# Altium integrated library Linear Technology Power Management Switching Regulator LTC1174-LTC3901.IntLib: 2647 symbols (part 360 of 364)
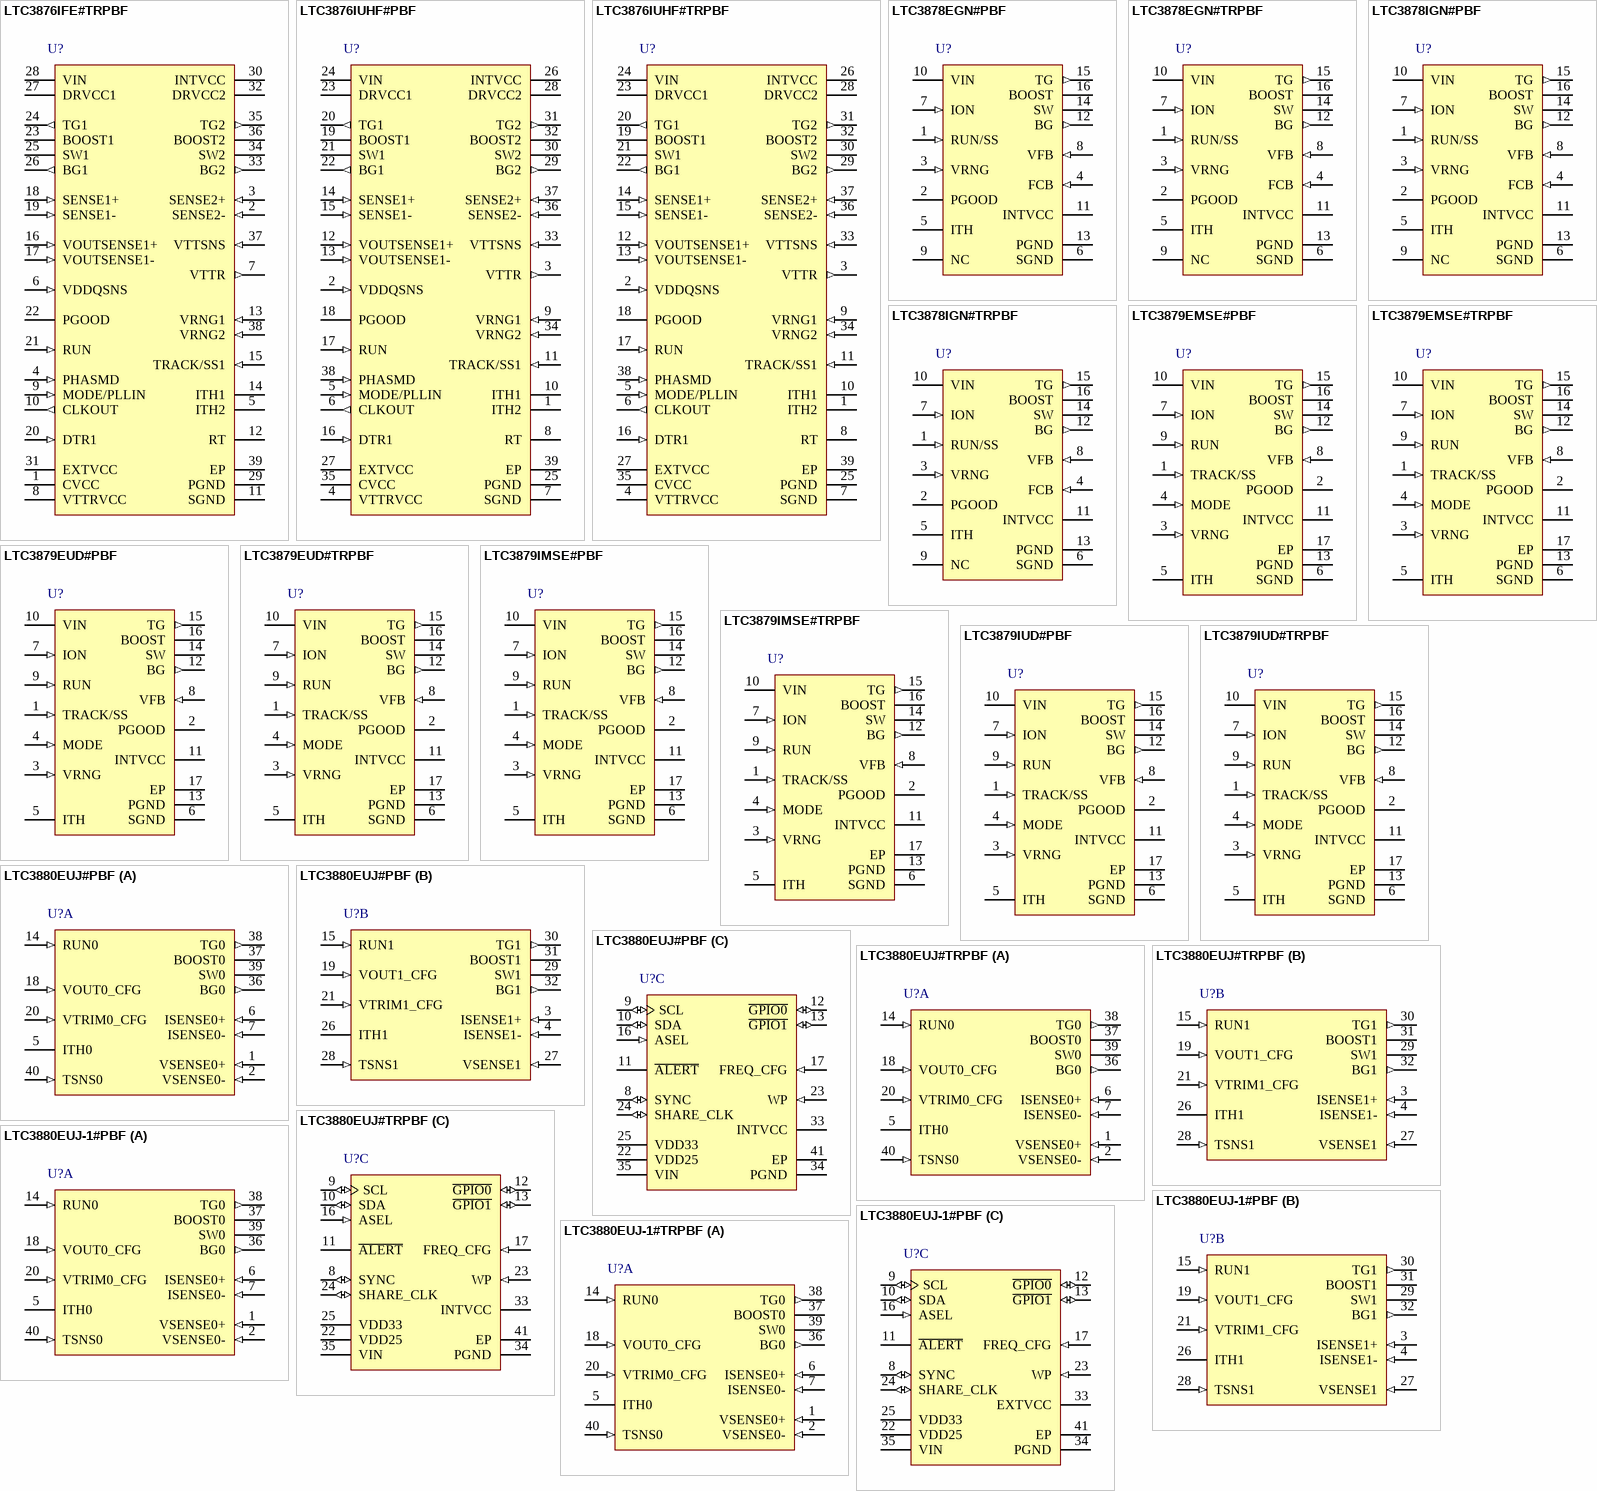
[diagram p303: symbols LTC3876IFE#TRPBF to LTC3880EUJ-1#TRPBF]

## LTC3879IMSE#TRPBF
designator U?
Fast, Wide Operating Range No Rsense Step-Down Controller, 16-pin SOP (MSE-16-EDP), -40 to 85 degC, Pb-Free, Tape and Reel; Manufacturer: Linear Technology; PartNumber: LTC3879IMSE#TRPBF; Number of Outputs: 1; PackageVersion: Rev. F, 05/2013; PackageReference: MSE-16; PackageDescription: 16-Pin Plastic MSOP, Exposed Die Pad, Body 4.039 x 3 mm, Pitch 0.5 mm; Supplier 1: Digi-Key; Supplier Part Number 1: LTC3879IMSE#TRPBF-ND; Supplier 2: Newark; Supplier Part Number 2: 71P8104; Packing: Tape and Reel; RoHS: TRUE; Mounting Technology: Surface Mount; ComponentLink1Description: Manufacturer URL; ComponentLink1URL: http://www.linear.com/; ComponentLink2Description: Datasheet; ComponentLink2URL: http://cds.linear.com/docs/en/datasheet/3879f.pdf; ComponentLink3Description: Package Specification; ComponentLink3URL: http://cds.linear.com/docs/en/packaging/05081667_F_MSE16.pdf
footprint LT-MSE-16-EDP_N (SOP, 16-Leads, Body 4.1x3.1mm, Pitch 0.5mm, Thermal Pad 2.95x1.76mm, IPC Medium Density)
footprint LT-MSE-16-EDP_L (SOP, 16-Leads, Body 4.1x3.1mm, Pitch 0.5mm, Thermal Pad 2.95x1.76mm, IPC High Density)
footprint LT-MSE-16-EDP_M (SOP, 16-Leads, Body 4.1x3.1mm, Pitch 0.5mm, Thermal Pad 2.95x1.76mm, IPC Low Density)
pins: 1 TRACK/SS (in) "External Tracking and Soft-Start Input. The LTC3879 regulates VFB to the smaller of 0.6V or the voltage on the TRACK/SS pin. An internal 1uA pull-up current source is connected to this pin. A capacitor to ground at this pin (See Datasheet)", 2 PGOOD (oc) "Power Good Output. This open-drain logic output is pulled to ground when the output voltage is outside of a +/-10% window around the regulation point.", 3 VRNG (in) "VDS Sense Voltage Range Input. The maximum allowed bottom MOSFET VDS sense voltage between SW and PGND is equal to (0.133)VRNG. The voltage applied to VRNG can be any value between 0.2V and 2V. If VRNG is tied to SGND, the (See Datasheet)", 4 MODE (in) "MODE Input. Connect this pin to INTVCC to enable discontinuous mode for light load operation. Connect this pin to SGND to force continuous mode operation in all conditions.", 5 ITH "Current Control Threshold and Error Amplifier Compensation Point. The current comparator threshold increases with this control voltage. The voltage ranges from 0V to 2.4V, with 0.8V corresponding to zero sense voltage (zero (See Datasheet)", 6 SGND (power) "Signal Ground. All small-signal components should be connected to SGND. Connect SGND to PGND using a single PCB trace.", 7 ION (in) "On-Time Current Input. Tie a resistor from VIN to this pin to set the one-shot timer current and thus the switching frequency.", 8 VFB (in) "Error Amplifier Feedback Input. This pin connects the error amplifier to an external resistive divider from VOUT.", 9 RUN (in) "Run Control Input. RUN below 1.5V disables switching by forcing TG and BG low. RUN less than 1.5V but greater than 0.7V enables all internal bias including the INTVCC output. RUN below 0.7V shuts down all bias and places the (See Datasheet)", 10 VIN (power) "Main Input Supply. The supply voltage can range from 4V to 38V. For increased noise immunity decouple this pin to PGND with an RC filter.", 11 INTVCC (power) "Internal 5.3V Regulator Output. The driver and control circuits are powered from this voltage. Decouple this pin to PGND with a minimum of 1uF, 10V X5R or X7R ceramic capacitor.", 12 BG (out) "Bottom Gate Drive. This pin drives the gate of the bottom N-Channel power MOSFET between PGND and INTVCC.", 13 PGND (power) "Power Ground. Connect this pin as close as practical to the source of the bottom N-channel power MOSFET, the (-) terminal of CINTVCC and the (-) terminal of CVIN.", 14 SW "Switch Node. The (-) terminal of the bootstrap capacitor, CB, connects to this node. This pin swings from a diode voltage below ground up to VIN.", 15 TG (out) "Top Gate Drive. This pin drives the gate of the top N-channel power MOSFET between SW and BOOST.", 16 BOOST "Boosted Floating Driver Supply. The (+) terminal of the bootstrap capacitor, CB, connects to this node. This node swings from (INTVCC - VSCHOTTKY) to VIN + (INTVCC - VSCHOTTKY).", 17 EP (power) "The Exposed Pad is SGND and must be soldered to the PCB."

## LTC3879IUD#PBF
designator U?
Fast, Wide Operating Range No Rsense Step-Down Controller, 16-pin QFN (UD-16-EPV-AA), -40 to 85 degC, Pb-Free; Manufacturer: Linear Technology; PartNumber: LTC3879IUD#PBF; Number of Outputs: 1; PackageVersion: Rev. A, 06/2010; PackageReference: UD-16; PackageDescription: 16-Pin Plastic QFN, Body 3 x 3 mm, Pitch 0.5 mm; Supplier 1: Digi-Key; Supplier Part Number 1: LTC3879IUD#PBF-ND; RoHS: TRUE; Mounting Technology: Surface Mount; Code_JEDEC: MO-220; ComponentLink1Description: Manufacturer URL; ComponentLink1URL: http://www.linear.com/; ComponentLink2Description: Datasheet; ComponentLink2URL: http://cds.linear.com/docs/en/datasheet/3879f.pdf; ComponentLink3Description: Package Specification; ComponentLink3URL: http://cds.linear.com/docs/en/packaging/QFN_16_05-08-1700.pdf
footprint LT-UD-16-EPV-AA_N (QFN, 16-Leads, Body 3.1x3.1mm, Pitch 0.5mm, Thermal Pad 1.65x1.65mm, IPC Medium Density)
footprint LT-UD-16-EPV-AA_L (QFN, 16-Leads, Body 3.1x3.1mm, Pitch 0.5mm, Thermal Pad 1.65x1.65mm, IPC High Density)
footprint LT-UD-16-EPV-AA_M (QFN, 16-Leads, Body 3.1x3.1mm, Pitch 0.5mm, Thermal Pad 1.65x1.65mm, IPC Low Density)
pins: 1 TRACK/SS (in) "External Tracking and Soft-Start Input. The LTC3879 regulates VFB to the smaller of 0.6V or the voltage on the TRACK/SS pin. An internal 1uA pull-up current source is connected to this pin. A capacitor to ground at this pin (See Datasheet)", 2 PGOOD (oc) "Power Good Output. This open-drain logic output is pulled to ground when the output voltage is outside of a +/-10% window around the regulation point.", 3 VRNG (in) "VDS Sense Voltage Range Input. The maximum allowed bottom MOSFET VDS sense voltage between SW and PGND is equal to (0.133)VRNG. The voltage applied to VRNG can be any value between 0.2V and 2V. If VRNG is tied to SGND, the (See Datasheet)", 4 MODE (in) "MODE Input. Connect this pin to INTVCC to enable discontinuous mode for light load operation. Connect this pin to SGND to force continuous mode operation in all conditions.", 5 ITH "Current Control Threshold and Error Amplifier Compensation Point. The current comparator threshold increases with this control voltage. The voltage ranges from 0V to 2.4V, with 0.8V corresponding to zero sense voltage (zero (See Datasheet)", 6 SGND (power) "Signal Ground. All small-signal components should be connected to SGND. Connect SGND to PGND using a single PCB trace.", 7 ION (in) "On-Time Current Input. Tie a resistor from VIN to this pin to set the one-shot timer current and thus the switching frequency.", 8 VFB (in) "Error Amplifier Feedback Input. This pin connects the error amplifier to an external resistive divider from VOUT.", 9 RUN (in) "Run Control Input. RUN below 1.5V disables switching by forcing TG and BG low. RUN less than 1.5V but greater than 0.7V enables all internal bias including the INTVCC output. RUN below 0.7V shuts down all bias and places the (See Datasheet)", 10 VIN (power) "Main Input Supply. The supply voltage can range from 4V to 38V. For increased noise immunity decouple this pin to PGND with an RC filter.", 11 INTVCC (power) "Internal 5.3V Regulator Output. The driver and control circuits are powered from this voltage. Decouple this pin to PGND with a minimum of 1uF, 10V X5R or X7R ceramic capacitor.", 12 BG (out) "Bottom Gate Drive. This pin drives the gate of the bottom N-Channel power MOSFET between PGND and INTVCC.", 13 PGND (power) "Power Ground. Connect this pin as close as practical to the source of the bottom N-channel power MOSFET, the (-) terminal of CINTVCC and the (-) terminal of CVIN.", 14 SW "Switch Node. The (-) terminal of the bootstrap capacitor, CB, connects to this node. This pin swings from a diode voltage below ground up to VIN.", 15 TG (out) "Top Gate Drive. This pin drives the gate of the top N-channel power MOSFET between SW and BOOST.", 16 BOOST "Boosted Floating Driver Supply. The (+) terminal of the bootstrap capacitor, CB, connects to this node. This node swings from (INTVCC - VSCHOTTKY) to VIN + (INTVCC - VSCHOTTKY).", 17 EP (power) "The Exposed Pad is SGND and must be soldered to the PCB."

## LTC3879IUD#TRPBF
designator U?
Fast, Wide Operating Range No Rsense Step-Down Controller, 16-pin QFN (UD-16-EPV-AA), -40 to 85 degC, Pb-Free, Tape and Reel; Manufacturer: Linear Technology; PartNumber: LTC3879IUD#TRPBF; Number of Outputs: 1; PackageVersion: Rev. A, 06/2010; PackageReference: UD-16; PackageDescription: 16-Pin Plastic QFN, Body 3 x 3 mm, Pitch 0.5 mm; Supplier 1: Digi-Key; Supplier Part Number 1: LTC3879IUD#TRPBF-ND; Supplier 2: Newark; Supplier Part Number 2: 71P8106; Packing: Tape and Reel; RoHS: TRUE; Mounting Technology: Surface Mount; Code_JEDEC: MO-220; ComponentLink1Description: Manufacturer URL; ComponentLink1URL: http://www.linear.com/; ComponentLink2Description: Datasheet; ComponentLink2URL: http://cds.linear.com/docs/en/datasheet/3879f.pdf; ComponentLink3Description: Package Specification; ComponentLink3URL: http://cds.linear.com/docs/en/packaging/QFN_16_05-08-1700.pdf
footprint LT-UD-16-EPV-AA_N (QFN, 16-Leads, Body 3.1x3.1mm, Pitch 0.5mm, Thermal Pad 1.65x1.65mm, IPC Medium Density)
footprint LT-UD-16-EPV-AA_L (QFN, 16-Leads, Body 3.1x3.1mm, Pitch 0.5mm, Thermal Pad 1.65x1.65mm, IPC High Density)
footprint LT-UD-16-EPV-AA_M (QFN, 16-Leads, Body 3.1x3.1mm, Pitch 0.5mm, Thermal Pad 1.65x1.65mm, IPC Low Density)
pins: 1 TRACK/SS (in) "External Tracking and Soft-Start Input. The LTC3879 regulates VFB to the smaller of 0.6V or the voltage on the TRACK/SS pin. An internal 1uA pull-up current source is connected to this pin. A capacitor to ground at this pin (See Datasheet)", 2 PGOOD (oc) "Power Good Output. This open-drain logic output is pulled to ground when the output voltage is outside of a +/-10% window around the regulation point.", 3 VRNG (in) "VDS Sense Voltage Range Input. The maximum allowed bottom MOSFET VDS sense voltage between SW and PGND is equal to (0.133)VRNG. The voltage applied to VRNG can be any value between 0.2V and 2V. If VRNG is tied to SGND, the (See Datasheet)", 4 MODE (in) "MODE Input. Connect this pin to INTVCC to enable discontinuous mode for light load operation. Connect this pin to SGND to force continuous mode operation in all conditions.", 5 ITH "Current Control Threshold and Error Amplifier Compensation Point. The current comparator threshold increases with this control voltage. The voltage ranges from 0V to 2.4V, with 0.8V corresponding to zero sense voltage (zero (See Datasheet)", 6 SGND (power) "Signal Ground. All small-signal components should be connected to SGND. Connect SGND to PGND using a single PCB trace.", 7 ION (in) "On-Time Current Input. Tie a resistor from VIN to this pin to set the one-shot timer current and thus the switching frequency.", 8 VFB (in) "Error Amplifier Feedback Input. This pin connects the error amplifier to an external resistive divider from VOUT.", 9 RUN (in) "Run Control Input. RUN below 1.5V disables switching by forcing TG and BG low. RUN less than 1.5V but greater than 0.7V enables all internal bias including the INTVCC output. RUN below 0.7V shuts down all bias and places the (See Datasheet)", 10 VIN (power) "Main Input Supply. The supply voltage can range from 4V to 38V. For increased noise immunity decouple this pin to PGND with an RC filter.", 11 INTVCC (power) "Internal 5.3V Regulator Output. The driver and control circuits are powered from this voltage. Decouple this pin to PGND with a minimum of 1uF, 10V X5R or X7R ceramic capacitor.", 12 BG (out) "Bottom Gate Drive. This pin drives the gate of the bottom N-Channel power MOSFET between PGND and INTVCC.", 13 PGND (power) "Power Ground. Connect this pin as close as practical to the source of the bottom N-channel power MOSFET, the (-) terminal of CINTVCC and the (-) terminal of CVIN.", 14 SW "Switch Node. The (-) terminal of the bootstrap capacitor, CB, connects to this node. This pin swings from a diode voltage below ground up to VIN.", 15 TG (out) "Top Gate Drive. This pin drives the gate of the top N-channel power MOSFET between SW and BOOST.", 16 BOOST "Boosted Floating Driver Supply. The (+) terminal of the bootstrap capacitor, CB, connects to this node. This node swings from (INTVCC - VSCHOTTKY) to VIN + (INTVCC - VSCHOTTKY).", 17 EP (power) "The Exposed Pad is SGND and must be soldered to the PCB."

## LTC3880EUJ#PBF
designator U?
Dual Output PolyPhase Step-Down DC/DC Controller with Digital Power System Management, 40-pin QFN (UJ-40), -40 to 105 degC, Pb-Free; Manufacturer: Linear Technology; PartNumber: LTC3880EUJ#PBF; Frequency Sync Range: 250kHz - 1MHz; Number of Outputs: 2; DatasheetVersion: Rev. A; PackageVersion: Rev. Ø, 06/2010; PackageReference: UJ-40; PackageDescription: 40-Pin Plastic QFN, Body 6 x 6 mm, Pitch 0.5 mm; Supplier 1: Digi-Key; Supplier Part Number 1: LTC3880EUJ#PBF-ND; Supplier 2: Farnell; Supplier Part Number 2: 2113547; Supplier 3: Newark; Supplier Part Number 3: 59T5658; RoHS: TRUE; Mounting Technology: Surface Mount; ComponentLink1Description: Manufacturer URL; ComponentLink1URL: http://www.linear.com/; ComponentLink2Description: Datasheet; ComponentLink2URL: http://cds.linear.com/docs/en/datasheet/3880fa.pdf; ComponentLink3Description: Package Specification; ComponentLink3URL: http://cds.linear.com/docs/en/packaging/QFN_40_05-08-1728.pdf
footprint LT-UJ-40_N (QFN, 40-Leads, Body 6.1x6.1mm, Pitch 0.5mm, Thermal Pad 4.42x4.42mm, IPC Medium Density)
footprint LT-UJ-40_L (QFN, 40-Leads, Body 6.1x6.1mm, Pitch 0.5mm, Thermal Pad 4.42x4.42mm, IPC High Density)
footprint LT-UJ-40_M (QFN, 40-Leads, Body 6.1x6.1mm, Pitch 0.5mm, Thermal Pad 4.42x4.42mm, IPC Low Density)
part A pins: 1 VSENSE0+ (in) "Channel 0 Positive Voltage Sense Input.", 2 VSENSE0- (in) "Channel 0 Negative Voltage Sense Input.", 5 ITH0 "Current Control Threshold and Error Amplifier Compensation Nodes. Each associated channel’s current comparator tripping threshold increases with its ITH voltage.", 6 ISENSE0+ (in) "Current Sense Comparator Inputs. The (+) inputs to the current comparators are normally connected to DCR sensing networks or current sensing resistors.", 7 ISENSE0- (in) "Current Sense Comparator Inputs. The (-) inputs are connected to the low side of the current sense element.", 14 RUN0 (in) "Enable Run Input. Logic high on these pins enables the controller. Open-drain output holds the pin low until the LTC3880 is out of reset. A pullup resistor to 3.3V is required in the application.", 18 VOUT0_CFG (in) "Output Voltage Select Pin. Connect a +/-1% resistor divider between the chip VDD25 VOUTn_CFG and SGND in order to select output voltage. This voltage can be adjusted with the VTRIMn_CFG pins. If the pin is left open, the IC (See Datasheet)", 20 VTRIM0_CFG (in) "Voltage Trim Select Pin. Connect a +/-1% resistor divider between the chip VDD25 VTRIMn_CFG and SGND in order to adjust the output voltage set point. The VTRIMn_CFG settings in conjunction with the VOUTn_CFG setting adjusts (See Datasheet)", 36 BG0 (out) "Bottom Gate Driver Outputs. These pins drive the gates of the bottom N-Channel MOSFETs between PGND and INTVCC.", 37 BOOST0 "Boosted Floating Driver Supplies. The (+) terminal of the booststrap capacitors connect to these pins. These pins swing from a diode voltage drop below INTVCC up to VIN + INTVCC.", 38 TG0 (out) "Top Gate Driver Outputs. These are the outputs of floating drivers with a voltage swing equal to INTVCC superimposed on the switch node voltages.", 39 SW0 "Switch Node Connections to Inductors. Voltage swings at the pins are from a Schottky diode (external) voltage drop below ground to VIN.", 40 TSNS0 (in) "Channel 0,1 External Diode Temperature Sense. Connect to the anode of a diode connected PNP transistor and star connect the cathode to SGND in order to sense remote temperature. If external temperature sense elements are not (See Datasheet)"
part B pins: 3 ISENSE1+ (in) "Current Sense Comparator Inputs. The (+) inputs to the current comparators are normally connected to DCR sensing networks or current sensing resistors.", 4 ISENSE1- (in) "Current Sense Comparator Inputs. The (-) inputs are connected to the low side of the current sense element.", 15 RUN1 (in) "Enable Run Input. Logic high on these pins enables the controller. Open-drain output holds the pin low until the LTC3880 is out of reset. A pullup resistor to 3.3V is required in the application.", 19 VOUT1_CFG (in) "Output Voltage Select Pin. Connect a +/-1% resistor divider between the chip VDD25 VOUTn_CFG and SGND in order to select output voltage. This voltage can be adjusted with the VTRIMn_CFG pins. If the pin is left open, the IC (See Datasheet)", 21 VTRIM1_CFG (in) "Voltage Trim Select Pin. Connect a +/-1% resistor divider between the chip VDD25 VTRIMn_CFG and SGND in order to adjust the output voltage set point. The VTRIMn_CFG settings in conjunction with the VOUTn_CFG setting adjusts (See Datasheet)", 26 ITH1 "Current Control Threshold and Error Amplifier Compensation Nodes. Each associated channel’s current comparator tripping threshold increases with its ITH voltage.", 27 VSENSE1 (in) "Channel 1 Voltage Sense Input. This input voltage is referenced to the SGND pin.", 28 TSNS1 (in) "Channel 0,1 External Diode Temperature Sense. Connect to the anode of a diode connected PNP transistor and star connect the cathode to SGND in order to sense remote temperature. If external temperature sense elements are not (See Datasheet)", 29 SW1 "Switch Node Connections to Inductors. Voltage swings at the pins are from a Schottky diode (external) voltage drop below ground to VIN.", 30 TG1 (out) "Top Gate Driver Outputs. These are the outputs of floating drivers with a voltage swing equal to INTVCC superimposed on the switch node voltages.", 31 BOOST1 "Boosted Floating Driver Supplies. The (+) terminal of the booststrap capacitors connect to these pins. These pins swing from a diode voltage drop below INTVCC up to VIN + INTVCC.", 32 BG1 (out) "Bottom Gate Driver Outputs. These pins drive the gates of the bottom N-Channel MOSFETs between PGND and INTVCC."
part C pins: 8 SYNC (io) "External Clock Synchronization Input and Open-Drain Output Pin. If an external clock is present at this pin, the switching frequency will be synchronized to the external clock. If clock master mode is enabled, this pin will (See Datasheet)", 9 SCL (io) "Serial Bus Clock Input. Open-drain output, can hold the output low if clock stretching is enabled. A pull-up resistor to 3.3V is required in the application.", 10 SDA (io) "Serial Bus Data Input and Output. A pull-up resistor to 3.3V is required in the application.", 11 ~{ALERT} (oc) "Open-Drain Digital Output. Connect the S\M\B\A\L\E\R\T\ signal to this pin. A pull-up resistor to 3.3V is required in the application", 12 ~{GPIO0} (io) "Digital Programmable General Purpose Inputs and Outputs. Open-drain output. A pull-up resistor to 3.3V is required in the application.", 13 ~{GPIO1} (io) "Digital Programmable General Purpose Inputs and Outputs. Open-drain output. A pull-up resistor to 3.3V is required in the application.", 16 ASEL (in) "Serial Bus Address Configuration Input. Connect a +/-1% resistor divider between the chip VDD25 ASEL and SGND in order to select the 4LSBs of the serial bus interface address. A resistor divider on ASEL is recommended if (See Datasheet)", 17 FREQ_CFG (in) "Frequency or Phase Set/Select Pin. Connect a +/-1% resistor divider between the chip VDD25 FREQ_CFG and SGND in order to select switching frequency or phase. If the pin is left open, the IC will use the value programmed in (See Datasheet)", 22 VDD25 (power) "Internally Generated 2.5V power Supply Output Pin. Bypass this pin to SGND with a low ESR 1uF capacitor. Do not load this pin with external current except for the +/-1% resistor dividers required for the configuration pins.", 23 WP (in) "Write Protect Pin Active High. An internal 10uA current source pulls the pin to VDD33. If WP is high, the PMBus writes are restricted.", 24 SHARE_CLK (io) "Share Clock, Bidirectional Open- Drain Clock Sharing Pin. Nominally 100kHz. Used to synchronize the timing between multiple LTC3880s. Tie all SHARE_CLK pins together. All LTC3880s will synchronize to the fastest clock. A (See Datasheet)", 25 VDD33 (power) "Internally Generated 3.3V Power Supply Output Pin. Bypass this pin to SGND with a low ESR 1uF capacitor. Do not load this pin with external current except for the pull-up resistors required for G\P\I\O\n, SCLK, SYNC and (See Datasheet)", 33 INTVCC (power) "Internal Regulator 5V Output. The control circuits are powered from this voltage. Decouple this pin to PGND with a minimum of 4.7uF low ESR tantalum or ceramic capacitor.", 34 PGND (power) "Power Ground Pin. Connect this pin closely to the sources of the bottom N-channel MOSFETs, the (-) terminal of CVCC and the (-) terminal of CIN.", 35 VIN (power) "Main Input Supply. Decouple this pin to PGND with a capacitor (0.1uF to 1uF). For applications where the main input power is 5V, tie the VIN and INTVCC pins together.", 41 EP (power) "Signal Ground. All smallsignal and compensation components should connect to this ground, which in turn connects to PGND at one point."

## LTC3880EUJ#TRPBF
designator U?
Dual Output PolyPhase Step-Down DC/DC Controller with Digital Power System Management, 40-pin QFN (UJ-40), -40 to 105 degC, Pb-Free, Tape and Reel; Manufacturer: Linear Technology; PartNumber: LTC3880EUJ#TRPBF; Frequency Sync Range: 250kHz - 1MHz; Number of Outputs: 2; DatasheetVersion: Rev. A; PackageVersion: Rev. Ø, 06/2010; PackageReference: UJ-40; PackageDescription: 40-Pin Plastic QFN, Body 6 x 6 mm, Pitch 0.5 mm; Supplier 1: Digi-Key; Supplier Part Number 1: LTC3880EUJ#TRPBF-ND; Supplier 2: Newark; Supplier Part Number 2: 59T5659; Packing: Tape and Reel; RoHS: TRUE; Mounting Technology: Surface Mount; ComponentLink1Description: Manufacturer URL; ComponentLink1URL: http://www.linear.com/; ComponentLink2Description: Datasheet; ComponentLink2URL: http://cds.linear.com/docs/en/datasheet/3880fa.pdf; ComponentLink3Description: Package Specification; ComponentLink3URL: http://cds.linear.com/docs/en/packaging/QFN_40_05-08-1728.pdf
footprint LT-UJ-40_N (QFN, 40-Leads, Body 6.1x6.1mm, Pitch 0.5mm, Thermal Pad 4.42x4.42mm, IPC Medium Density)
footprint LT-UJ-40_L (QFN, 40-Leads, Body 6.1x6.1mm, Pitch 0.5mm, Thermal Pad 4.42x4.42mm, IPC High Density)
footprint LT-UJ-40_M (QFN, 40-Leads, Body 6.1x6.1mm, Pitch 0.5mm, Thermal Pad 4.42x4.42mm, IPC Low Density)
part A pins: 1 VSENSE0+ (in) "Channel 0 Positive Voltage Sense Input.", 2 VSENSE0- (in) "Channel 0 Negative Voltage Sense Input.", 5 ITH0 "Current Control Threshold and Error Amplifier Compensation Nodes. Each associated channel’s current comparator tripping threshold increases with its ITH voltage.", 6 ISENSE0+ (in) "Current Sense Comparator Inputs. The (+) inputs to the current comparators are normally connected to DCR sensing networks or current sensing resistors.", 7 ISENSE0- (in) "Current Sense Comparator Inputs. The (-) inputs are connected to the low side of the current sense element.", 14 RUN0 (in) "Enable Run Input. Logic high on these pins enables the controller. Open-drain output holds the pin low until the LTC3880 is out of reset. A pullup resistor to 3.3V is required in the application.", 18 VOUT0_CFG (in) "Output Voltage Select Pin. Connect a +/-1% resistor divider between the chip VDD25 VOUTn_CFG and SGND in order to select output voltage. This voltage can be adjusted with the VTRIMn_CFG pins. If the pin is left open, the IC (See Datasheet)", 20 VTRIM0_CFG (in) "Voltage Trim Select Pin. Connect a +/-1% resistor divider between the chip VDD25 VTRIMn_CFG and SGND in order to adjust the output voltage set point. The VTRIMn_CFG settings in conjunction with the VOUTn_CFG setting adjusts (See Datasheet)", 36 BG0 (out) "Bottom Gate Driver Outputs. These pins drive the gates of the bottom N-Channel MOSFETs between PGND and INTVCC.", 37 BOOST0 "Boosted Floating Driver Supplies. The (+) terminal of the booststrap capacitors connect to these pins. These pins swing from a diode voltage drop below INTVCC up to VIN + INTVCC.", 38 TG0 (out) "Top Gate Driver Outputs. These are the outputs of floating drivers with a voltage swing equal to INTVCC superimposed on the switch node voltages.", 39 SW0 "Switch Node Connections to Inductors. Voltage swings at the pins are from a Schottky diode (external) voltage drop below ground to VIN.", 40 TSNS0 (in) "Channel 0,1 External Diode Temperature Sense. Connect to the anode of a diode connected PNP transistor and star connect the cathode to SGND in order to sense remote temperature. If external temperature sense elements are not (See Datasheet)"
part B pins: 3 ISENSE1+ (in) "Current Sense Comparator Inputs. The (+) inputs to the current comparators are normally connected to DCR sensing networks or current sensing resistors.", 4 ISENSE1- (in) "Current Sense Comparator Inputs. The (-) inputs are connected to the low side of the current sense element.", 15 RUN1 (in) "Enable Run Input. Logic high on these pins enables the controller. Open-drain output holds the pin low until the LTC3880 is out of reset. A pullup resistor to 3.3V is required in the application.", 19 VOUT1_CFG (in) "Output Voltage Select Pin. Connect a +/-1% resistor divider between the chip VDD25 VOUTn_CFG and SGND in order to select output voltage. This voltage can be adjusted with the VTRIMn_CFG pins. If the pin is left open, the IC (See Datasheet)", 21 VTRIM1_CFG (in) "Voltage Trim Select Pin. Connect a +/-1% resistor divider between the chip VDD25 VTRIMn_CFG and SGND in order to adjust the output voltage set point. The VTRIMn_CFG settings in conjunction with the VOUTn_CFG setting adjusts (See Datasheet)", 26 ITH1 "Current Control Threshold and Error Amplifier Compensation Nodes. Each associated channel’s current comparator tripping threshold increases with its ITH voltage.", 27 VSENSE1 (in) "Channel 1 Voltage Sense Input. This input voltage is referenced to the SGND pin.", 28 TSNS1 (in) "Channel 0,1 External Diode Temperature Sense. Connect to the anode of a diode connected PNP transistor and star connect the cathode to SGND in order to sense remote temperature. If external temperature sense elements are not (See Datasheet)", 29 SW1 "Switch Node Connections to Inductors. Voltage swings at the pins are from a Schottky diode (external) voltage drop below ground to VIN.", 30 TG1 (out) "Top Gate Driver Outputs. These are the outputs of floating drivers with a voltage swing equal to INTVCC superimposed on the switch node voltages.", 31 BOOST1 "Boosted Floating Driver Supplies. The (+) terminal of the booststrap capacitors connect to these pins. These pins swing from a diode voltage drop below INTVCC up to VIN + INTVCC.", 32 BG1 (out) "Bottom Gate Driver Outputs. These pins drive the gates of the bottom N-Channel MOSFETs between PGND and INTVCC."
part C pins: 8 SYNC (io) "External Clock Synchronization Input and Open-Drain Output Pin. If an external clock is present at this pin, the switching frequency will be synchronized to the external clock. If clock master mode is enabled, this pin will (See Datasheet)", 9 SCL (io) "Serial Bus Clock Input. Open-drain output, can hold the output low if clock stretching is enabled. A pull-up resistor to 3.3V is required in the application.", 10 SDA (io) "Serial Bus Data Input and Output. A pull-up resistor to 3.3V is required in the application.", 11 ~{ALERT} (oc) "Open-Drain Digital Output. Connect the S\M\B\A\L\E\R\T\ signal to this pin. A pull-up resistor to 3.3V is required in the application", 12 ~{GPIO0} (io) "Digital Programmable General Purpose Inputs and Outputs. Open-drain output. A pull-up resistor to 3.3V is required in the application.", 13 ~{GPIO1} (io) "Digital Programmable General Purpose Inputs and Outputs. Open-drain output. A pull-up resistor to 3.3V is required in the application.", 16 ASEL (in) "Serial Bus Address Configuration Input. Connect a +/-1% resistor divider between the chip VDD25 ASEL and SGND in order to select the 4LSBs of the serial bus interface address. A resistor divider on ASEL is recommended if (See Datasheet)", 17 FREQ_CFG (in) "Frequency or Phase Set/Select Pin. Connect a +/-1% resistor divider between the chip VDD25 FREQ_CFG and SGND in order to select switching frequency or phase. If the pin is left open, the IC will use the value programmed in (See Datasheet)", 22 VDD25 (power) "Internally Generated 2.5V power Supply Output Pin. Bypass this pin to SGND with a low ESR 1uF capacitor. Do not load this pin with external current except for the +/-1% resistor dividers required for the configuration pins.", 23 WP (in) "Write Protect Pin Active High. An internal 10uA current source pulls the pin to VDD33. If WP is high, the PMBus writes are restricted.", 24 SHARE_CLK (io) "Share Clock, Bidirectional Open- Drain Clock Sharing Pin. Nominally 100kHz. Used to synchronize the timing between multiple LTC3880s. Tie all SHARE_CLK pins together. All LTC3880s will synchronize to the fastest clock. A (See Datasheet)", 25 VDD33 (power) "Internally Generated 3.3V Power Supply Output Pin. Bypass this pin to SGND with a low ESR 1uF capacitor. Do not load this pin with external current except for the pull-up resistors required for G\P\I\O\n, SCLK, SYNC and (See Datasheet)", 33 INTVCC (power) "Internal Regulator 5V Output. The control circuits are powered from this voltage. Decouple this pin to PGND with a minimum of 4.7uF low ESR tantalum or ceramic capacitor.", 34 PGND (power) "Power Ground Pin. Connect this pin closely to the sources of the bottom N-channel MOSFETs, the (-) terminal of CVCC and the (-) terminal of CIN.", 35 VIN (power) "Main Input Supply. Decouple this pin to PGND with a capacitor (0.1uF to 1uF). For applications where the main input power is 5V, tie the VIN and INTVCC pins together.", 41 EP (power) "Signal Ground. All smallsignal and compensation components should connect to this ground, which in turn connects to PGND at one point."

## LTC3880EUJ-1#PBF
designator U?
Dual Output PolyPhase Step-Down DC/DC Controller with Digital Power System Management, 40-pin QFN (UJ-40), -40 to 105 degC, Pb-Free; Manufacturer: Linear Technology; PartNumber: LTC3880EUJ-1#PBF; Frequency Sync Range: 250kHz - 1MHz; Number of Outputs: 2; DatasheetVersion: Rev. A; PackageVersion: Rev. Ø, 06/2010; PackageReference: UJ-40; PackageDescription: 40-Pin Plastic QFN, Body 6 x 6 mm, Pitch 0.5 mm; Supplier 1: Digi-Key; Supplier Part Number 1: LTC3880EUJ-1#PBF-ND; Supplier 2: Farnell; Supplier Part Number 2: 2113546; Supplier 3: Newark; Supplier Part Number 3: 59T5656; RoHS: TRUE; Mounting Technology: Surface Mount; ComponentLink1Description: Manufacturer URL; ComponentLink1URL: http://www.linear.com/; ComponentLink2Description: Datasheet; ComponentLink2URL: http://cds.linear.com/docs/en/datasheet/3880fa.pdf; ComponentLink3Description: Package Specification; ComponentLink3URL: http://cds.linear.com/docs/en/packaging/QFN_40_05-08-1728.pdf
footprint LT-UJ-40_N (QFN, 40-Leads, Body 6.1x6.1mm, Pitch 0.5mm, Thermal Pad 4.42x4.42mm, IPC Medium Density)
footprint LT-UJ-40_L (QFN, 40-Leads, Body 6.1x6.1mm, Pitch 0.5mm, Thermal Pad 4.42x4.42mm, IPC High Density)
footprint LT-UJ-40_M (QFN, 40-Leads, Body 6.1x6.1mm, Pitch 0.5mm, Thermal Pad 4.42x4.42mm, IPC Low Density)
part A pins: 1 VSENSE0+ (in) "Channel 0 Positive Voltage Sense Input.", 2 VSENSE0- (in) "Channel 0 Negative Voltage Sense Input.", 5 ITH0 "Current Control Threshold and Error Amplifier Compensation Nodes. Each associated channel’s current comparator tripping threshold increases with its ITH voltage.", 6 ISENSE0+ (in) "Current Sense Comparator Inputs. The (+) inputs to the current comparators are normally connected to DCR sensing networks or current sensing resistors.", 7 ISENSE0- (in) "Current Sense Comparator Inputs. The (-) inputs are connected to the low side of the current sense element.", 14 RUN0 (in) "Enable Run Input. Logic high on these pins enables the controller. Open-drain output holds the pin low until the LTC3880 is out of reset. A pullup resistor to 3.3V is required in the application.", 18 VOUT0_CFG (in) "Output Voltage Select Pin. Connect a +/-1% resistor divider between the chip VDD25 VOUTn_CFG and SGND in order to select output voltage. This voltage can be adjusted with the VTRIMn_CFG pins. If the pin is left open, the IC (See Datasheet)", 20 VTRIM0_CFG (in) "Voltage Trim Select Pin. Connect a +/-1% resistor divider between the chip VDD25 VTRIMn_CFG and SGND in order to adjust the output voltage set point. The VTRIMn_CFG settings in conjunction with the VOUTn_CFG setting adjusts (See Datasheet)", 36 BG0 (out) "Bottom Gate Driver Outputs. These pins drive the gates of the bottom N-Channel MOSFETs between PGND and INTVCC.", 37 BOOST0 "Boosted Floating Driver Supplies. The (+) terminal of the booststrap capacitors connect to these pins. These pins swing from a diode voltage drop below INTVCC up to VIN + INTVCC.", 38 TG0 (out) "Top Gate Driver Outputs. These are the outputs of floating drivers with a voltage swing equal to INTVCC superimposed on the switch node voltages.", 39 SW0 "Switch Node Connections to Inductors. Voltage swings at the pins are from a Schottky diode (external) voltage drop below ground to VIN.", 40 TSNS0 (in) "Channel 0,1 External Diode Temperature Sense. Connect to the anode of a diode connected PNP transistor and star connect the cathode to SGND in order to sense remote temperature. If external temperature sense elements are not (See Datasheet)"
part B pins: 3 ISENSE1+ (in) "Current Sense Comparator Inputs. The (+) inputs to the current comparators are normally connected to DCR sensing networks or current sensing resistors.", 4 ISENSE1- (in) "Current Sense Comparator Inputs. The (-) inputs are connected to the low side of the current sense element.", 15 RUN1 (in) "Enable Run Input. Logic high on these pins enables the controller. Open-drain output holds the pin low until the LTC3880 is out of reset. A pullup resistor to 3.3V is required in the application.", 19 VOUT1_CFG (in) "Output Voltage Select Pin. Connect a +/-1% resistor divider between the chip VDD25 VOUTn_CFG and SGND in order to select output voltage. This voltage can be adjusted with the VTRIMn_CFG pins. If the pin is left open, the IC (See Datasheet)", 21 VTRIM1_CFG (in) "Voltage Trim Select Pin. Connect a +/-1% resistor divider between the chip VDD25 VTRIMn_CFG and SGND in order to adjust the output voltage set point. The VTRIMn_CFG settings in conjunction with the VOUTn_CFG setting adjusts (See Datasheet)", 26 ITH1 "Current Control Threshold and Error Amplifier Compensation Nodes. Each associated channel’s current comparator tripping threshold increases with its ITH voltage.", 27 VSENSE1 (in) "Channel 1 Voltage Sense Input. This input voltage is referenced to the SGND pin.", 28 TSNS1 (in) "Channel 0,1 External Diode Temperature Sense. Connect to the anode of a diode connected PNP transistor and star connect the cathode to SGND in order to sense remote temperature. If external temperature sense elements are not (See Datasheet)", 29 SW1 "Switch Node Connections to Inductors. Voltage swings at the pins are from a Schottky diode (external) voltage drop below ground to VIN.", 30 TG1 (out) "Top Gate Driver Outputs. These are the outputs of floating drivers with a voltage swing equal to INTVCC superimposed on the switch node voltages.", 31 BOOST1 "Boosted Floating Driver Supplies. The (+) terminal of the booststrap capacitors connect to these pins. These pins swing from a diode voltage drop below INTVCC up to VIN + INTVCC.", 32 BG1 (out) "Bottom Gate Driver Outputs. These pins drive the gates of the bottom N-Channel MOSFETs between PGND and INTVCC."
part C pins: 8 SYNC (io) "External Clock Synchronization Input and Open-Drain Output Pin. If an external clock is present at this pin, the switching frequency will be synchronized to the external clock. If clock master mode is enabled, this pin will (See Datasheet)", 9 SCL (io) "Serial Bus Clock Input. Open-drain output, can hold the output low if clock stretching is enabled. A pull-up resistor to 3.3V is required in the application.", 10 SDA (io) "Serial Bus Data Input and Output. A pull-up resistor to 3.3V is required in the application.", 11 ~{ALERT} (oc) "Open-Drain Digital Output. Connect the S\M\B\A\L\E\R\T\ signal to this pin. A pull-up resistor to 3.3V is required in the application", 12 ~{GPIO0} (io) "Digital Programmable General Purpose Inputs and Outputs. Open-drain output. A pull-up resistor to 3.3V is required in the application.", 13 ~{GPIO1} (io) "Digital Programmable General Purpose Inputs and Outputs. Open-drain output. A pull-up resistor to 3.3V is required in the application.", 16 ASEL (in) "Serial Bus Address Configuration Input. Connect a +/-1% resistor divider between the chip VDD25 ASEL and SGND in order to select the 4LSBs of the serial bus interface address. A resistor divider on ASEL is recommended if (See Datasheet)", 17 FREQ_CFG (in) "Frequency or Phase Set/Select Pin. Connect a +/-1% resistor divider between the chip VDD25 FREQ_CFG and SGND in order to select switching frequency or phase. If the pin is left open, the IC will use the value programmed in (See Datasheet)", 22 VDD25 (power) "Internally Generated 2.5V power Supply Output Pin. Bypass this pin to SGND with a low ESR 1uF capacitor. Do not load this pin with external current except for the +/-1% resistor dividers required for the configuration pins.", 23 WP (in) "Write Protect Pin Active High. An internal 10uA current source pulls the pin to VDD33. If WP is high, the PMBus writes are restricted.", 24 SHARE_CLK (io) "Share Clock, Bidirectional Open- Drain Clock Sharing Pin. Nominally 100kHz. Used to synchronize the timing between multiple LTC3880s. Tie all SHARE_CLK pins together. All LTC3880s will synchronize to the fastest clock. A (See Datasheet)", 25 VDD33 (power) "Internally Generated 3.3V Power Supply Output Pin. Bypass this pin to SGND with a low ESR 1uF capacitor. Do not load this pin with external current except for the pull-up resistors required for G\P\I\O\n, SCLK, SYNC and (See Datasheet)", 33 EXTVCC (power) "External Regulator 5V input. The control circuits are powered from this voltage. Decouple this pin to PGND with a minimum of 4.7uF low ESR tantalum or ceramic capacitor.", 34 PGND (power) "Power Ground Pin. Connect this pin closely to the sources of the bottom N-channel MOSFETs, the (-) terminal of CVCC and the (-) terminal of CIN.", 35 VIN (power) "Main Input Supply. Decouple this pin to PGND with a capacitor (0.1uF to 1uF). For applications where the main input power is 5V, tie the VIN and INTVCC pins together.", 41 EP (power) "Signal Ground. All smallsignal and compensation components should connect to this ground, which in turn connects to PGND at one point."

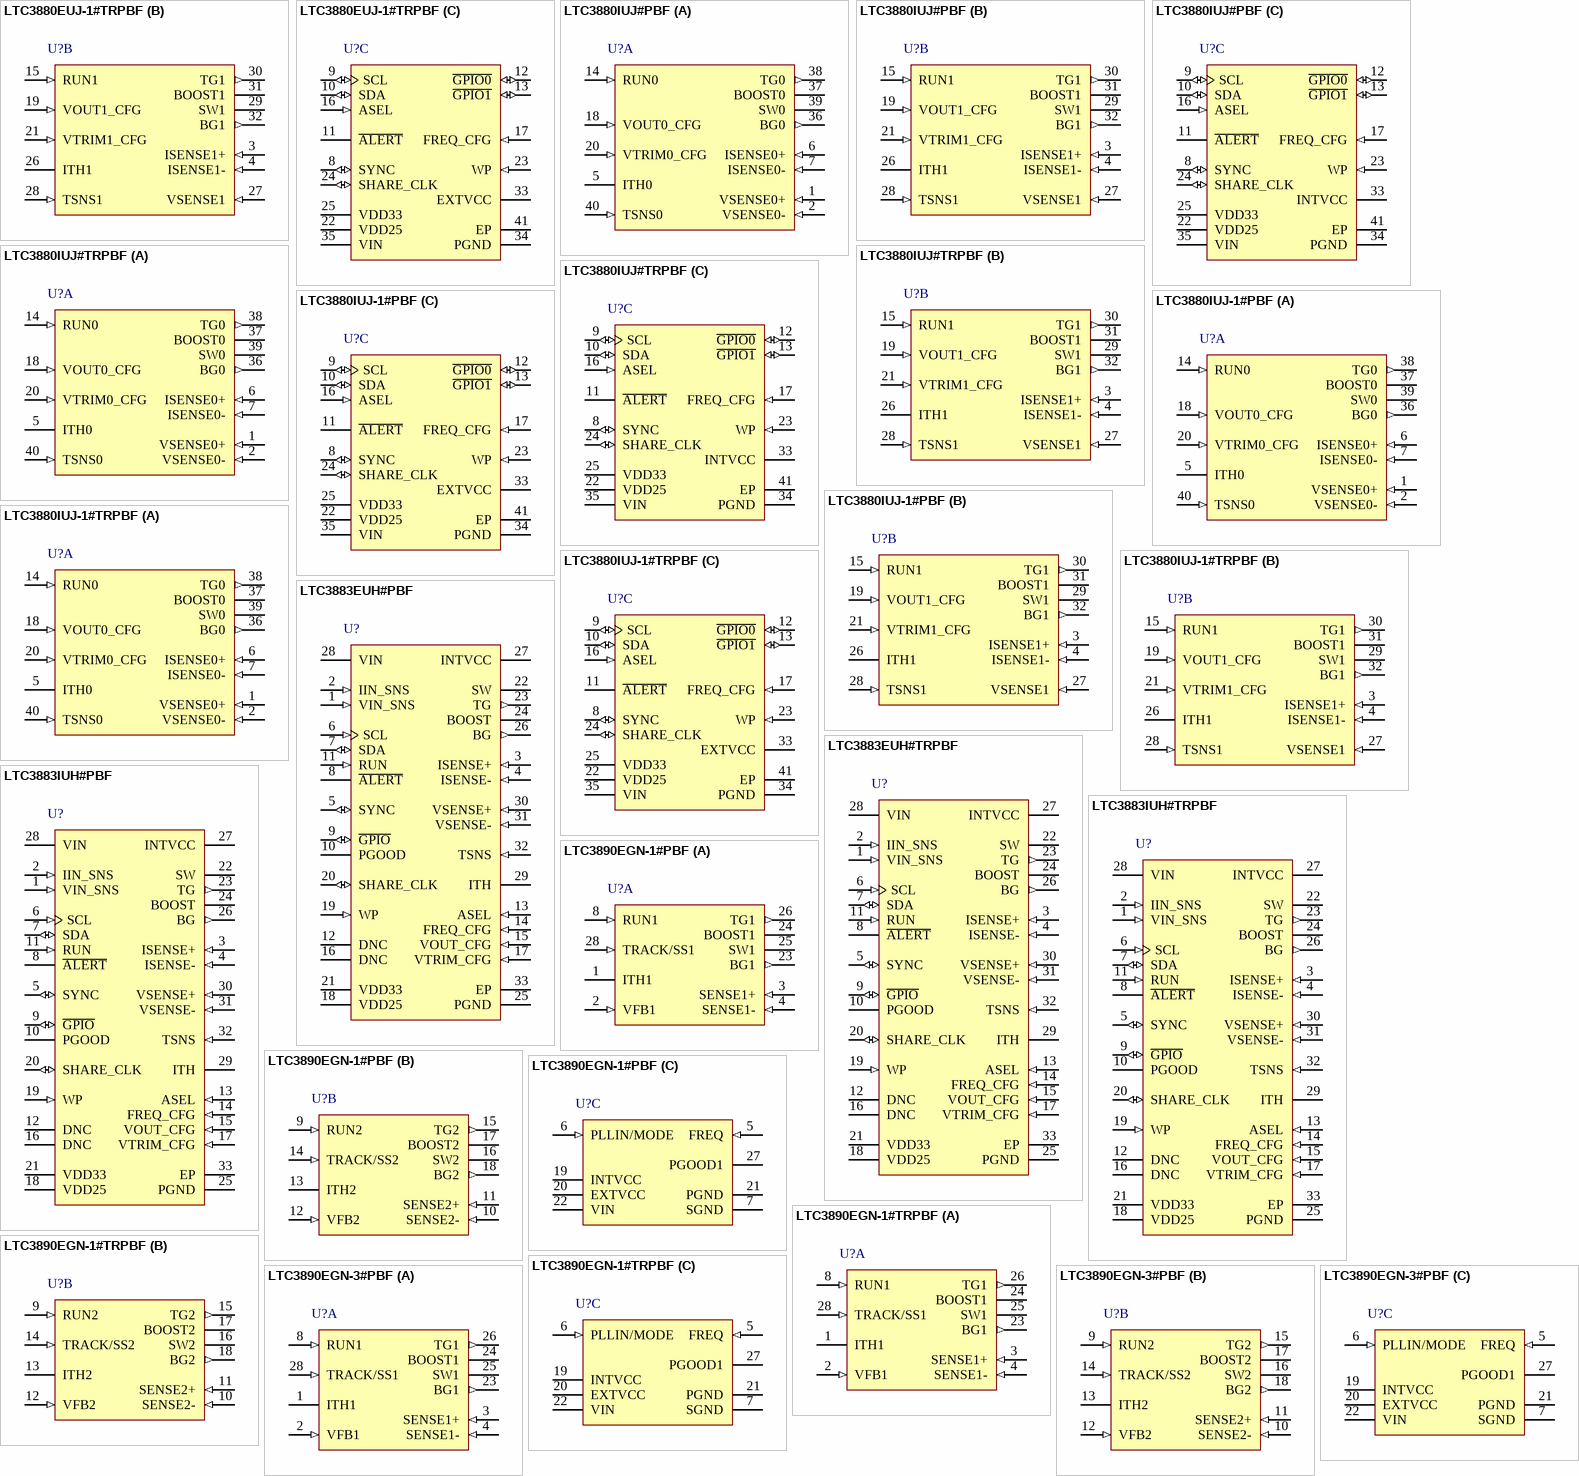
[diagram p112: symbols LTC3880EUJ-1#TRPBF to LTC3890EGN-3#PBF]

## LTC3880EUJ-1#TRPBF
designator U?
Dual Output PolyPhase Step-Down DC/DC Controller with Digital Power System Management, 40-pin QFN (UJ-40), -40 to 105 degC, Pb-Free, Tape and Reel; Manufacturer: Linear Technology; PartNumber: LTC3880EUJ-1#TRPBF; Frequency Sync Range: 250kHz - 1MHz; Number of Outputs: 2; DatasheetVersion: Rev. A; PackageVersion: Rev. Ø, 06/2010; PackageReference: UJ-40; PackageDescription: 40-Pin Plastic QFN, Body 6 x 6 mm, Pitch 0.5 mm; Supplier 1: Digi-Key; Supplier Part Number 1: LTC3880EUJ-1#TRPBF-ND; Supplier 2: Newark; Supplier Part Number 2: 59T5657; Packing: Tape and Reel; RoHS: TRUE; Mounting Technology: Surface Mount; ComponentLink1Description: Manufacturer URL; ComponentLink1URL: http://www.linear.com/; ComponentLink2Description: Datasheet; ComponentLink2URL: http://cds.linear.com/docs/en/datasheet/3880fa.pdf; ComponentLink3Description: Package Specification; ComponentLink3URL: http://cds.linear.com/docs/en/packaging/QFN_40_05-08-1728.pdf
footprint LT-UJ-40_N (QFN, 40-Leads, Body 6.1x6.1mm, Pitch 0.5mm, Thermal Pad 4.42x4.42mm, IPC Medium Density)
footprint LT-UJ-40_L (QFN, 40-Leads, Body 6.1x6.1mm, Pitch 0.5mm, Thermal Pad 4.42x4.42mm, IPC High Density)
footprint LT-UJ-40_M (QFN, 40-Leads, Body 6.1x6.1mm, Pitch 0.5mm, Thermal Pad 4.42x4.42mm, IPC Low Density)
part A pins: 1 VSENSE0+ (in) "Channel 0 Positive Voltage Sense Input.", 2 VSENSE0- (in) "Channel 0 Negative Voltage Sense Input.", 5 ITH0 "Current Control Threshold and Error Amplifier Compensation Nodes. Each associated channel’s current comparator tripping threshold increases with its ITH voltage.", 6 ISENSE0+ (in) "Current Sense Comparator Inputs. The (+) inputs to the current comparators are normally connected to DCR sensing networks or current sensing resistors.", 7 ISENSE0- (in) "Current Sense Comparator Inputs. The (-) inputs are connected to the low side of the current sense element.", 14 RUN0 (in) "Enable Run Input. Logic high on these pins enables the controller. Open-drain output holds the pin low until the LTC3880 is out of reset. A pullup resistor to 3.3V is required in the application.", 18 VOUT0_CFG (in) "Output Voltage Select Pin. Connect a +/-1% resistor divider between the chip VDD25 VOUTn_CFG and SGND in order to select output voltage. This voltage can be adjusted with the VTRIMn_CFG pins. If the pin is left open, the IC (See Datasheet)", 20 VTRIM0_CFG (in) "Voltage Trim Select Pin. Connect a +/-1% resistor divider between the chip VDD25 VTRIMn_CFG and SGND in order to adjust the output voltage set point. The VTRIMn_CFG settings in conjunction with the VOUTn_CFG setting adjusts (See Datasheet)", 36 BG0 (out) "Bottom Gate Driver Outputs. These pins drive the gates of the bottom N-Channel MOSFETs between PGND and INTVCC.", 37 BOOST0 "Boosted Floating Driver Supplies. The (+) terminal of the booststrap capacitors connect to these pins. These pins swing from a diode voltage drop below INTVCC up to VIN + INTVCC.", 38 TG0 (out) "Top Gate Driver Outputs. These are the outputs of floating drivers with a voltage swing equal to INTVCC superimposed on the switch node voltages.", 39 SW0 "Switch Node Connections to Inductors. Voltage swings at the pins are from a Schottky diode (external) voltage drop below ground to VIN.", 40 TSNS0 (in) "Channel 0,1 External Diode Temperature Sense. Connect to the anode of a diode connected PNP transistor and star connect the cathode to SGND in order to sense remote temperature. If external temperature sense elements are not (See Datasheet)"
part B pins: 3 ISENSE1+ (in) "Current Sense Comparator Inputs. The (+) inputs to the current comparators are normally connected to DCR sensing networks or current sensing resistors.", 4 ISENSE1- (in) "Current Sense Comparator Inputs. The (-) inputs are connected to the low side of the current sense element.", 15 RUN1 (in) "Enable Run Input. Logic high on these pins enables the controller. Open-drain output holds the pin low until the LTC3880 is out of reset. A pullup resistor to 3.3V is required in the application.", 19 VOUT1_CFG (in) "Output Voltage Select Pin. Connect a +/-1% resistor divider between the chip VDD25 VOUTn_CFG and SGND in order to select output voltage. This voltage can be adjusted with the VTRIMn_CFG pins. If the pin is left open, the IC (See Datasheet)", 21 VTRIM1_CFG (in) "Voltage Trim Select Pin. Connect a +/-1% resistor divider between the chip VDD25 VTRIMn_CFG and SGND in order to adjust the output voltage set point. The VTRIMn_CFG settings in conjunction with the VOUTn_CFG setting adjusts (See Datasheet)", 26 ITH1 "Current Control Threshold and Error Amplifier Compensation Nodes. Each associated channel’s current comparator tripping threshold increases with its ITH voltage.", 27 VSENSE1 (in) "Channel 1 Voltage Sense Input. This input voltage is referenced to the SGND pin.", 28 TSNS1 (in) "Channel 0,1 External Diode Temperature Sense. Connect to the anode of a diode connected PNP transistor and star connect the cathode to SGND in order to sense remote temperature. If external temperature sense elements are not (See Datasheet)", 29 SW1 "Switch Node Connections to Inductors. Voltage swings at the pins are from a Schottky diode (external) voltage drop below ground to VIN.", 30 TG1 (out) "Top Gate Driver Outputs. These are the outputs of floating drivers with a voltage swing equal to INTVCC superimposed on the switch node voltages.", 31 BOOST1 "Boosted Floating Driver Supplies. The (+) terminal of the booststrap capacitors connect to these pins. These pins swing from a diode voltage drop below INTVCC up to VIN + INTVCC.", 32 BG1 (out) "Bottom Gate Driver Outputs. These pins drive the gates of the bottom N-Channel MOSFETs between PGND and INTVCC."
part C pins: 8 SYNC (io) "External Clock Synchronization Input and Open-Drain Output Pin. If an external clock is present at this pin, the switching frequency will be synchronized to the external clock. If clock master mode is enabled, this pin will (See Datasheet)", 9 SCL (io) "Serial Bus Clock Input. Open-drain output, can hold the output low if clock stretching is enabled. A pull-up resistor to 3.3V is required in the application.", 10 SDA (io) "Serial Bus Data Input and Output. A pull-up resistor to 3.3V is required in the application.", 11 ~{ALERT} (oc) "Open-Drain Digital Output. Connect the S\M\B\A\L\E\R\T\ signal to this pin. A pull-up resistor to 3.3V is required in the application", 12 ~{GPIO0} (io) "Digital Programmable General Purpose Inputs and Outputs. Open-drain output. A pull-up resistor to 3.3V is required in the application.", 13 ~{GPIO1} (io) "Digital Programmable General Purpose Inputs and Outputs. Open-drain output. A pull-up resistor to 3.3V is required in the application.", 16 ASEL (in) "Serial Bus Address Configuration Input. Connect a +/-1% resistor divider between the chip VDD25 ASEL and SGND in order to select the 4LSBs of the serial bus interface address. A resistor divider on ASEL is recommended if (See Datasheet)", 17 FREQ_CFG (in) "Frequency or Phase Set/Select Pin. Connect a +/-1% resistor divider between the chip VDD25 FREQ_CFG and SGND in order to select switching frequency or phase. If the pin is left open, the IC will use the value programmed in (See Datasheet)", 22 VDD25 (power) "Internally Generated 2.5V power Supply Output Pin. Bypass this pin to SGND with a low ESR 1uF capacitor. Do not load this pin with external current except for the +/-1% resistor dividers required for the configuration pins.", 23 WP (in) "Write Protect Pin Active High. An internal 10uA current source pulls the pin to VDD33. If WP is high, the PMBus writes are restricted.", 24 SHARE_CLK (io) "Share Clock, Bidirectional Open- Drain Clock Sharing Pin. Nominally 100kHz. Used to synchronize the timing between multiple LTC3880s. Tie all SHARE_CLK pins together. All LTC3880s will synchronize to the fastest clock. A (See Datasheet)", 25 VDD33 (power) "Internally Generated 3.3V Power Supply Output Pin. Bypass this pin to SGND with a low ESR 1uF capacitor. Do not load this pin with external current except for the pull-up resistors required for G\P\I\O\n, SCLK, SYNC and (See Datasheet)", 33 EXTVCC (power) "External Regulator 5V input. The control circuits are powered from this voltage. Decouple this pin to PGND with a minimum of 4.7uF low ESR tantalum or ceramic capacitor.", 34 PGND (power) "Power Ground Pin. Connect this pin closely to the sources of the bottom N-channel MOSFETs, the (-) terminal of CVCC and the (-) terminal of CIN.", 35 VIN (power) "Main Input Supply. Decouple this pin to PGND with a capacitor (0.1uF to 1uF). For applications where the main input power is 5V, tie the VIN and INTVCC pins together.", 41 EP (power) "Signal Ground. All smallsignal and compensation components should connect to this ground, which in turn connects to PGND at one point."